# Altium footprint library Pin28_PCB_Library.PcbLib: 29 footprints (part 1 of 2)
Each footprint in its own frame and in the unit in brackets; x right, y up, seen from the top. Pads: shape width x height; smd on the part's side, far side on the other; paste and mask are expansions set on the pad; w line width, h text height; cw(c..) or ccw(c..) is an arc to the next point about the centre after c.
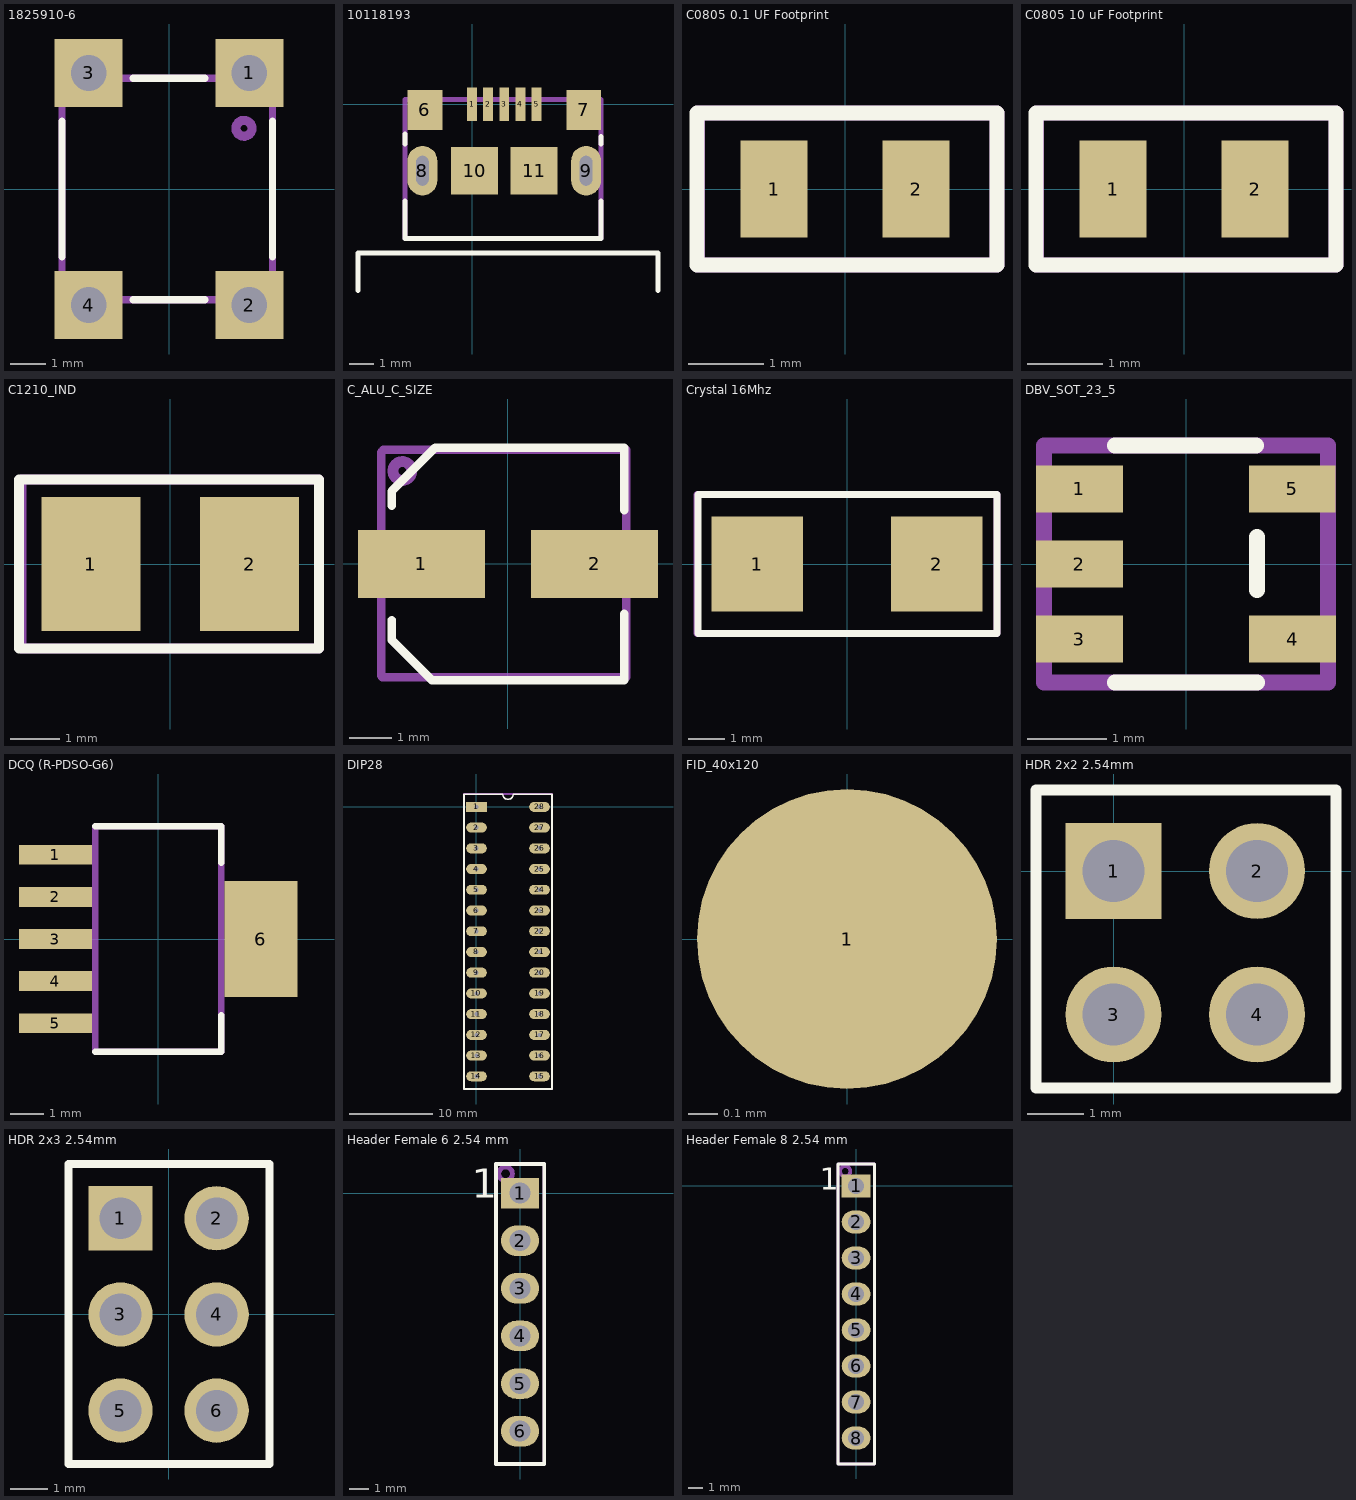
[diagram p0: the footprints below, top view; thin cyan lines are the x and y axes]

## 28-DIP, 7.6mm Socket [mm]
3D body "dil_socket.stp": height 4.2, standoff -3.17, extent -1.24,-34.26 8.86,1.24

## 1825910-6 [mm]
pads (4):
  rect 1.9x1.9 hole 1: 1(2.25,3.25) 2(2.25,-3.25) 3(-2.25,3.25) 4(-2.25,-3.25)
Top Overlay:
  lines w0.2: -3,-1.9 -3,1.9 ; -1,-3.1 1,-3.1 ; -1,3.1 1,3.1 ; 2.9,-1.9 2.9,-0.95 2.9,0.95 2.9,1.9
Mechanical 29:
  circle w0.254: c2.1,1.7 r0.224
  lines w0.2: -3,-3.1 -3,3.1 2.9,3.1 2.9,3 2.9,-3.1 -3,-3.1
3D body "User Library-FSM4JLH(1825910-5).step": height 5, standoff -3.51, extent -2.995,-3.898 2.995,3.9

## 10118193 [mm]
pads (11):
  rect 0.4x1.35 smd mask+0.05: 1(0,0) 2(0.65,0) 3(1.3,0) 4(1.95,0) 5(2.6,0)
  rect 1.4x1.6 smd mask+0.05: 6(-1.9,-0.225) 7(4.5,-0.225)
  oval 1.2x2 hole 0.5 slot 1.2 at 90 deg mask+0.05: 8(-2,-2.675) 9(4.6,-2.675)
  rect 1.9x1.9 smd mask+0.05: 10(0.1,-2.675) 11(2.5,-2.675)
Top Overlay:
  lines w0.2: -4.6,-7.5 -4.6,-6 7.5,-6 7.5,-7.5 ; -2.7,-3.9 -2.7,-5.4 5.2,-5.4 5.2,-3.9 ; -2.7,-1.6 -2.7,-1.2 ; 5.2,-1.6 5.2,-1.3
Mechanical 29:
  lines w0.2: -2.7,-5.4 -2.7,0.2 5.2,0.2 5.2,-5.4 -2.7,-5.4
  text "'.Designator'" at -1,-2.9 h1.52
3D body "10118193-0001lfc.stp": height 3.08, standoff -0.53, extent -2.629,-5.46 5.228,0.2

## C0805 0.1 UF Footprint [mm]
pads (2):
  rect 0.9x1.3 smd: 1(-0.95,0) 2(0.95,0)
Top Overlay:
  lines w0.2: -1.98,-1.016 2.032,-1.016 2.032,1.016 -1.98,1.016 -1.98,0 -1.98,-1.016
Mechanical 29:
  lines w0.2: -1.975,-1.016 -1.975,1.016 2.032,1.016 2.032,-1.016 -1.975,-1.016
  text "'.Designator'" at -1.45,-0.175 h0.6
3D body "CAPC2012X94N EIA 0805.step": height 0.94, standoff 0, extent -1,-0.6 1,0.6

## C0805 10 uF Footprint [mm]
pads (2):
  rect 0.9x1.3 smd: 1(-0.95,0) 2(0.95,0)
Top Overlay:
  lines w0.2: -1.98,-1.016 2.032,-1.016 2.032,1.016 -1.98,1.016 -1.98,0 -1.98,-1.016
Mechanical 29:
  lines w0.2: -1.975,-1.016 -1.975,1.016 2.032,1.016 2.032,-1.016 -1.975,-1.016
  text "'.Designator'" at -1.45,-0.175 h0.6
3D body "CAPC2012X94N EIA 0805.step": height 1.04, standoff 0.1, extent -1,-0.6 1,0.6

## C1210_IND [mm]
pads (2):
  rect 2x2.7 smd: 1(-1.6,0) 2(1.6,0)
Top Overlay:
  lines w0.2: -3.05,-1.7 3,-1.7 3,1.7 -3.05,1.7 -3.05,0 -3.05,-1.7
Mechanical 29:
  lines w0.2: -3,-1.7 -3,1.7 3,1.7 3,-1.7 -3,-1.7
  text "'.Designator'" at -2.3,-0.9 h1.52
3D body: height 2.7, standoff 0, extent -1.4,-1.25 1.5,1.25
3D body: height 2.7, standoff 0, extent 1.5,-1.25 1.7,1.25
3D body: height 2.7, standoff 0, extent -1.6,-1.25 -1.4,1.25

## C_ALU_C_SIZE [mm]
pads (2):
  rect 3x1.6 smd: 1(-2.05,0) 2(2.05,0)
Top Overlay:
  lines w0.2: -2.75,-1.325 -2.75,-1.8 -1.8,-2.75 2.75,-2.75 2.75,-1.175 ; -2.75,1.375 -2.75,1.725 -1.725,2.75 2.75,2.75 2.75,1.275
Mechanical 29:
  circle w0.254: c-2.5,2.2 r0.224
  lines w0.2: -3,-2.65 -3,2.65 -2.95,2.7 2.8,2.7 2.8,-2.675 -2.975,-2.675 -3,-2.65
  text "'.Designator'" at -2.3,-0.75 h1.52
3D body "User Library-capacitor size C.step": height 5.41, standoff -0.01, extent -3,-2.65 2.9,2.65

## Crystal 16Mhz [mm]
pads (2):
  rect 2.5x2.6 smd: 1(-2.45,0) 2(2.45,0)
Top Overlay:
  lines w0.2: -4.075,-1.9 4.1,-1.9 4.1,1.9 -4.075,1.9 -4.075,0 -4.075,-1.9
Mechanical 29:
  lines w0.2: -4.1,-1.9 4.1,-1.9 4.1,1.9 -4.1,1.9 -4.1,-1.9
  text "'.Designator'" at -2,-0.5 h1.52
3D body "ABM7.STEP": height 1.4, standoff 0, extent -2.997,-1.752 2.997,1.753

## DBV_SOT_23_5 [mm]
pads (5):
  rect 1.1x0.6 smd: 1(-1.35,0.95) 2(-1.35,0) 3(-1.35,-0.95) 4(1.35,-0.95) 5(1.346,0.95)
Top Overlay:
  lines w0.2: -0.9,-1.5 0.9,-1.5 ; -0.9,1.5 0.888,1.5 ; 0.9,-0.33 0.9,0.343
Mechanical 29:
  lines w0.2: -1.8,-1.5 -1.8,1.5 1.8,1.5 1.8,-1.5 -1.8,-1.5
  text "'.Designator'" at 0.4,-0.7 h1
3D body "User Library-TPS79333DBVR.step": height 1.6, standoff -0.02, extent -1.513,-1.525 1.514,1.525

## DCQ (R-PDSO-G6) [mm]
pads (6):
  rect 2.2x0.6 smd: 1(-3.1,2.54) 2(-3.1,1.27) 3(-3.1,0) 4(-3.1,-1.27) 5(-3.1,-2.54)
  rect 2.2x3.5 smd: 6(3.1,0)
Top Overlay:
  lines w0.2: -1.9,-3.4 1.9,-3.4 1.9,-2.3 ; -1.9,3.4 1.9,3.4 1.9,2.3
Mechanical 29:
  lines w0.2: -1.9,-3.4 1.9,-3.4 1.9,3.4 -1.9,3.4 -1.9,-3.4
  text "'.Designator'" at 0.6,-3.1 h1.52
3D body "User Library-TPS73701DCQ.step": height 1.8, standoff 0, extent -3.63,-3.275 3.63,3.275

## DIP28 [mm]
pads (28):
  rect 2.5x1.2 hole 0.5: 1(0,0)
  oval 2.5x1.2 hole 0.5: 2(0,-2.5) 3(0,-5) 4(0,-7.5) 5(0,-10) 6(0,-12.5) 7(0,-15) 8(0,-17.5) 9(0,-20) 10(0,-22.5) 11(0,-25) 12(0,-27.5) 13(0,-30) 14(0,-32.5) 15(7.6,-32.5) 16(7.6,-30) 17(7.6,-27.5) 18(7.6,-25) 19(7.6,-22.5) 20(7.6,-20) 21(7.6,-17.5) 22(7.6,-15) 23(7.6,-12.5) 24(7.6,-10) 25(7.6,-7.5) 26(7.6,-5) 27(7.6,-2.5) 28(7.6,0)
Top Overlay:
  lines w0.2: -1.5,-34.03 -1.5,1.53 3.175,1.53 ccw(c3.8,1.53) 4.425,1.53 9.1,1.53 9.1,-34.03 -1.5,-34.03
Mechanical 29:
  circle w0.254: c0,0 r0.191
  lines w0.254: -1.5,-34.03 -1.5,1.53 9.1,1.53 9.1,-34.03 -1.5,-34.03
  text "'.Designator'" at 5.07,-19.933 h3
3D body "User Library-28 pin dip-1.STEP": height 7.55, standoff 1.33, extent -0.137,-34.157 7.737,1.784

## FID_40x120 [mil]
pads (1):
  round 40 smd paste-40 mask+40: 1(0,0)

## HDR 2x2 2.54mm [mm]
pads (4):
  rect 1.7x1.7 hole 1.1: 1(0,0)
  round 1.7 hole 1.1: 2(2.54,0) 3(0,-2.54) 4(2.54,-2.54)
Top Overlay:
  lines w0.2: -1.372,1.385 -1.372,-3.84 3.937,-3.84 3.937,1.423 ; -1.372,1.435 -0.044,1.435 2.61,1.435 3.937,1.435
Mechanical 29:
  text "'.Designator'" at 2.85,-5.925 h1.52
3D body "961204-6404-XX.stp": height 8, standoff -3.3, extent -1.265,-3.7 3.815,1.3

## HDR 2x3 2.54mm [mm]
pads (6):
  rect 1.7x1.7 hole 1.1: 1(-1.27,2.54)
  round 1.7 hole 1.1: 2(1.27,2.54) 3(-1.27,0) 4(1.27,0) 5(-1.27,-2.54) 6(1.27,-2.54)
Top Overlay:
  lines w0.2: -2.642,3.925 -2.642,-3.95 2.667,-3.95 2.667,3.963 ; -2.642,3.975 -1.314,3.975 1.34,3.975 2.667,3.975
Mechanical 29:
  text "'.Designator'" at 1.6,-3.5 h1.52
3D body "961206-6404-XX.stp": height 8, standoff -3.3, extent -2.5,-3.81 2.5,3.81

## Header Female 6 2.54 mm [mm]
pads (6):
  rect 2x1.6 hole 1.1: 1(0,0)
  oval 2x1.6 hole 1.1: 2(0,-2.5) 3(0,-5) 4(0,-7.5) 5(0,-10) 6(0,-12.5)
Top Overlay:
  lines w0.2: -1.27,-14.224 1.27,-14.224 1.27,1.524 -1.27,1.524 -1.27,-14.224
  text "1" at -2.54,-0.254 h1.52
Mechanical 29:
  circle w0.254: c-0.762,1.016 r0.359
  lines w0.2: -1.27,-14.224 -1.27,1.524 1.27,1.524 1.27,-14.224 -1.27,-14.224
  text "'.Designator'" at 3.556,-15.494 h1.52
3D body "m20-7820646_asm.stp": height 8, standoff -3.5, extent -1.23,-14.17 1.27,1.47

## Header Female 8 2.54 mm [mm]
pads (8):
  rect 2x1.6 hole 1.1: 1(0,0)
  oval 2x1.6 hole 1.1: 2(0,-2.5) 3(0,-5) 4(0,-7.5) 5(0,-10) 6(0,-12.5) 7(0,-15) 8(0,-17.5)
Top Overlay:
  lines w0.2: -1.27,-19.304 -1.27,1.524 1.27,1.524 1.27,-19.304 -1.27,-19.304
  text "1" at -2.54,-0.254 h1.52
Mechanical 29:
  circle w0.254: c-0.762,1.016 r0.359
  lines w0.2: -1.27,-19.304 1.27,-19.304 1.27,1.524 -1.27,1.524 -1.27,-19.304
  text "'.Designator'" at 3.556,-15.494 h1.52
3D body "m20-7820842_asm.stp": height 8, standoff -3.5, extent -1.25,-19.25 1.25,1.47